# Altium integrated library 0154004.DR.IntLib: 1 symbol
Pins are listed as number, name and electrical type; pins without a type are passive.

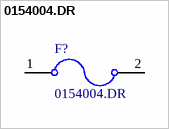
[diagram p0: symbol 0154004.DR]

## 0154004.DR
designator F?
Fuse Chip Very Fast Acting 4A SMD Solder Pad 9.73 X 5.03 X 3.81mm T/R CSA/PSE/UL; MF: Littelfuse; Package: SMD-2 Littelfuse; SnapEDA_Link: https://www.snapeda.com/symbols-footprints/0154004.DR/Littelfuse%20Inc/view-part/?ref=snap; MP: 0154004.DR; Price: 1.63 USD; Availability: Good; Value: *
footprint FUSE_0154004.DR
pins: 1, 2